# Altium footprint library RectangularConnectors.PcbLib: 154 footprints (part 5 of 10)
Each footprint in its own frame and in the unit in brackets; x right, y up, seen from the top. Pads: shape width x height; smd on the part's side, far side on the other; paste and mask are expansions set on the pad; w line width, h text height; cw(c..) or ccw(c..) is an arc to the next point about the centre after c.
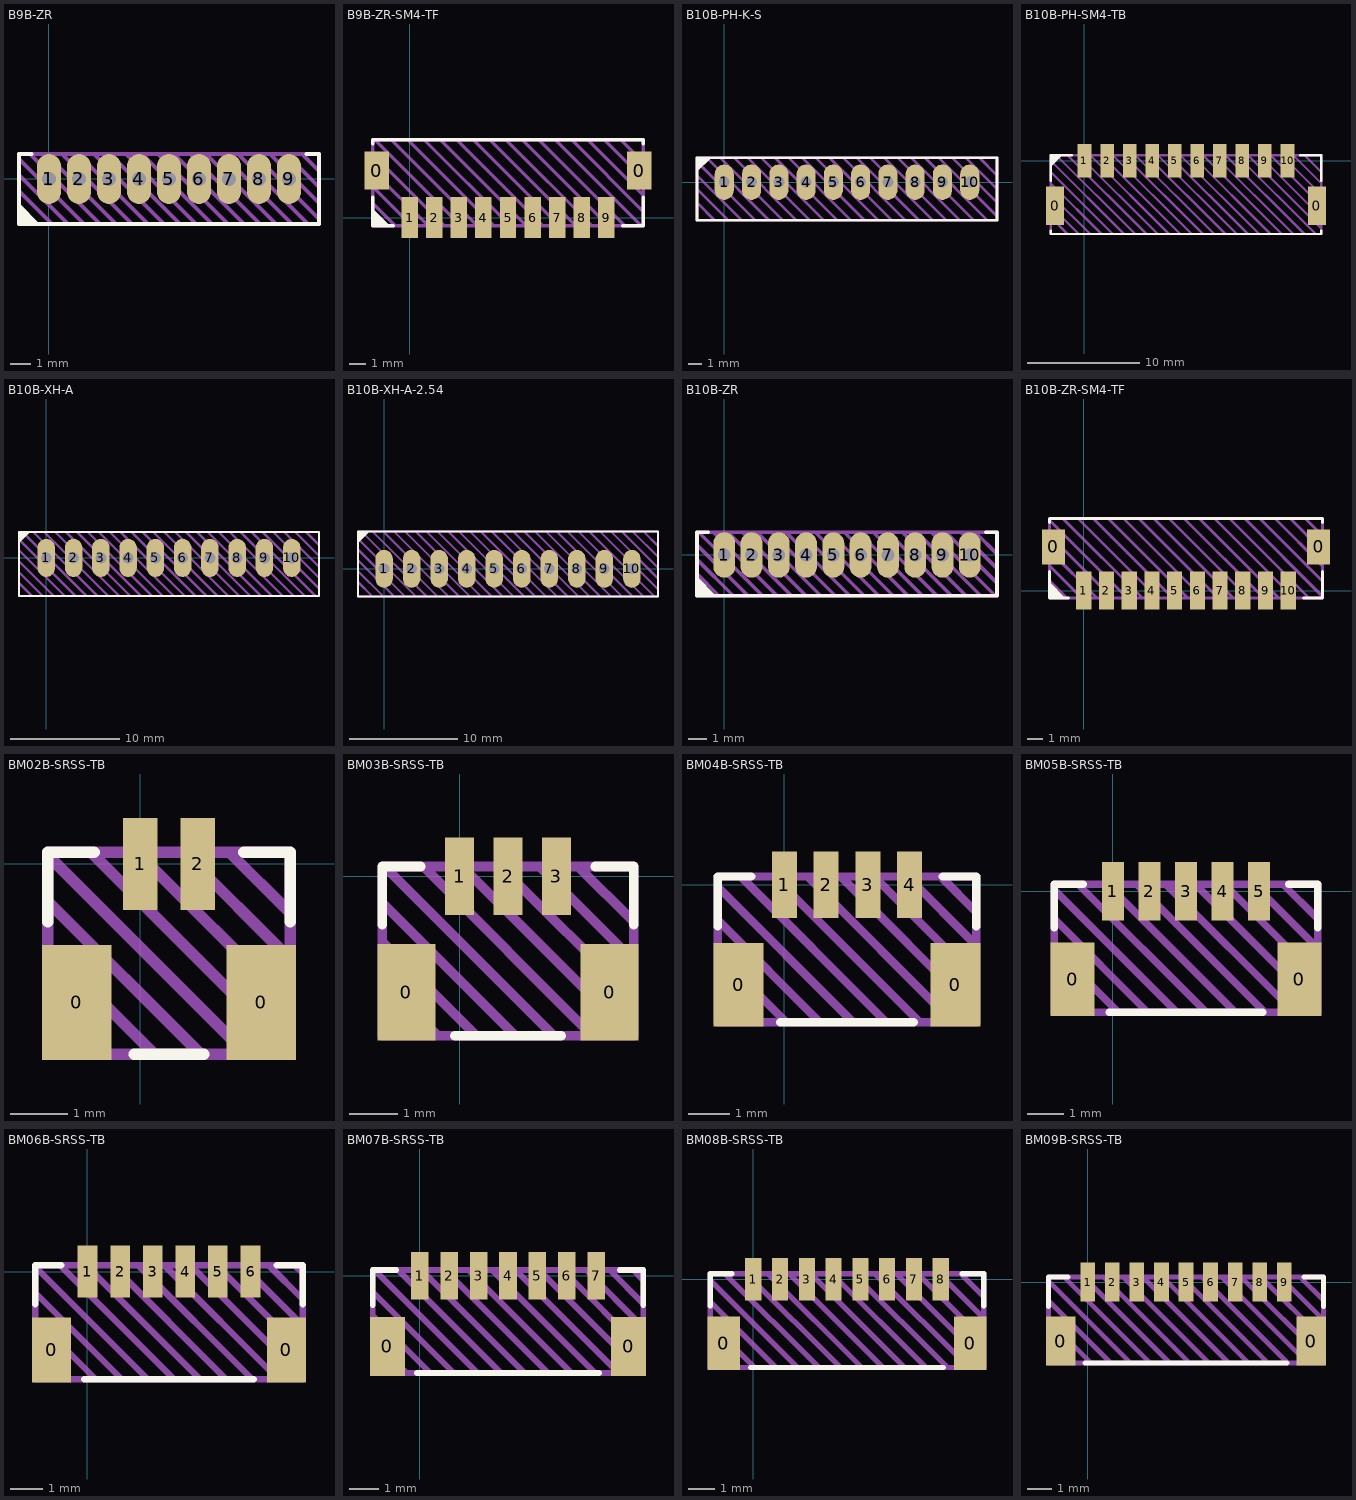
[diagram p4: the footprints below, top view; thin cyan lines are the x and y axes]

## B9B-ZR [mm] "ZH1.5 PTH Straight"
pads (9):
  oval 1.2x2.5 hole 0.7: 1(0,0) 2(1.5,0) 3(3,0) 4(4.5,0) 5(6,0) 6(7.5,0) 7(9,0) 8(10.5,0) 9(12,0)
Top Overlay:
  region: -0.46,-2.25 -1.5,-1.21 -1.5,-2.25
  lines w0.2: -0.875,1.25 -1.5,1.25 -1.5,-2.25 13.5,-2.25 13.5,1.25 12.875,1.25
Top Draw:
  lines w0.2: -1.5,-1.4 -0.65,-2.25 ; -1.5,-0.6 0.15,-2.25 ; -1.5,0.2 0.95,-2.25 ; -1.5,1 1.75,-2.25 ; -0.95,1.25 2.55,-2.25 ; -0.15,1.25 3.35,-2.25 ; 0.65,1.25 4.15,-2.25 ; 1.45,1.25 4.95,-2.25 ; 2.25,1.25 5.75,-2.25 ; 3.05,1.25 6.55,-2.25 ; 3.85,1.25 7.35,-2.25 ; 4.65,1.25 8.15,-2.25 ; 5.45,1.25 8.95,-2.25 ; 6.25,1.25 9.75,-2.25 ; 7.05,1.25 10.55,-2.25 ; 7.85,1.25 11.35,-2.25 ; 8.65,1.25 12.15,-2.25 ; 9.45,1.25 12.95,-2.25 ; 10.25,1.25 13.5,-2 ; 11.05,1.25 13.5,-1.2 ; 11.85,1.25 13.5,-0.4 ; 12.65,1.25 13.5,0.4 ; -1.5,-2.25 -1.5,1.25 13.5,1.25 13.5,-2.25 -1.5,-2.25
Top Info:
  text "'.Comment'" at 2.814,-3.437 h0.75
3D body "B9B-ZR.step": height 4.52, standoff -2.68, extent -1.5,-2.2 13.5,1.3

## B9B-ZR-SM4-TF [mm] "ZH1.5 SMT Straight"
pads (11):
  rect 1.5x2.3 smd: 0(-2,2.875) 0(14,2.875)
  rect 1x2.5 smd: 1(0,0) 2(1.5,0) 3(3,0) 4(4.5,0) 5(6,0) 6(7.5,0) 7(9,0) 8(10.5,0) 9(12,0)
Top Overlay:
  region: -1.21,-0.5 -2.25,0.54 -2.25,-0.5
  lines w0.2: -2.25,1.25 -2.25,-0.5 -1,-0.5 ; -2.25,4.5 -2.25,4.75 14.25,4.75 14.25,4.5 ; 13,-0.5 14.25,-0.5 14.25,1.25
Top Draw:
  lines w0.2: -2.25,0.875 -0.875,-0.5 ; -2.25,1.875 0.125,-0.5 ; -2.25,2.875 1.125,-0.5 ; -2.25,3.875 2.125,-0.5 ; -2.125,4.75 3.125,-0.5 ; -1.125,4.75 4.125,-0.5 ; -0.125,4.75 5.125,-0.5 ; 0.875,4.75 6.125,-0.5 ; 1.875,4.75 7.125,-0.5 ; 2.875,4.75 8.125,-0.5 ; 3.875,4.75 9.125,-0.5 ; 4.875,4.75 10.125,-0.5 ; 5.875,4.75 11.125,-0.5 ; 6.875,4.75 12.125,-0.5 ; 7.875,4.75 13.125,-0.5 ; 8.875,4.75 14.125,-0.5 ; 9.875,4.75 14.25,0.375 ; 10.875,4.75 14.25,1.375 ; 11.875,4.75 14.25,2.375 ; 12.875,4.75 14.25,3.375 ; -2.25,-0.5 -2.25,4.75 14.25,4.75 14.25,-0.5 -2.25,-0.5
Top Info:
  text "'.Comment'" at 2.814,-2.437 h0.75
3D body "B9B-ZR-SM4-TF.step": height 5.02, standoff 0.02, extent -2.25,-0.5 14.25,4.7

## B10B-PH-K-S [mm] "PH2.0 PTH Straight"
pads (10):
  oval 1.4x2.6 hole 0.8: 1(0,0) 2(2,0) 3(4,0) 4(6,0) 5(8,0) 6(10,0) 7(12,0) 8(14,0) 9(16,0) 10(18,0)
Top Overlay:
  region: -2,0.76 -0.96,1.8 -2,1.8
  lines w0.2: -2,-2.8 20,-2.8 20,1.8 -2,1.8 -2,-2.8
Top Draw:
  lines w0.2: -2,-1.5 -0.7,-2.8 ; -2,-0.5 0.3,-2.8 ; -2,0.5 1.3,-2.8 ; -2,1.5 2.3,-2.8 ; -1.3,1.8 3.3,-2.8 ; -0.3,1.8 4.3,-2.8 ; 0.7,1.8 5.3,-2.8 ; 1.7,1.8 6.3,-2.8 ; 2.7,1.8 7.3,-2.8 ; 3.7,1.8 8.3,-2.8 ; 4.7,1.8 9.3,-2.8 ; 5.7,1.8 10.3,-2.8 ; 6.7,1.8 11.3,-2.8 ; 7.7,1.8 12.3,-2.8 ; 8.7,1.8 13.3,-2.8 ; 9.7,1.8 14.3,-2.8 ; 10.7,1.8 15.3,-2.8 ; 11.7,1.8 16.3,-2.8 ; 12.7,1.8 17.3,-2.8 ; 13.7,1.8 18.3,-2.8 ; 14.7,1.8 19.3,-2.8 ; 15.7,1.8 20,-2.5 ; 16.7,1.8 20,-1.5 ; 17.7,1.8 20,-0.5 ; 18.7,1.8 20,0.5 ; -2,-2.8 20,-2.8 20,1.8 -2,1.8 -2,-2.8
Top Info:
  text "'.Comment'" at 4.751,-4.283 h1
3D body "B10B-PH-K-S.stp": height 6.02, standoff -3.38, extent -1.95,-2.8 19.95,1.8

## B10B-PH-SM4-TB [mm] "PH2.0 SMT Straight"
pads (12):
  rect 1.6x3.4 smd: 0(-2.6,-4) 0(20.6,-4)
  rect 1.2x3 smd: 1(0,0) 2(2,0) 3(4,0) 4(6,0) 5(8,0) 6(10,0) 7(12,0) 8(14,0) 9(16,0) 10(18,0)
Top Overlay:
  region: -3,-0.54 -1.96,0.5 -3,0.5
  lines w0.2: -3,-6.2 -3,-6.5 21,-6.5 21,-6.2 ; -3,-1.8 -3,0.5 -1.1,0.5 ; 19.1,0.5 21,0.5 21,-1.8
Top Draw:
  lines w0.2: -3,-5 -1.5,-6.5 ; -3,-4 -0.5,-6.5 ; -3,-3 0.5,-6.5 ; -3,-2 1.5,-6.5 ; -3,-1 2.5,-6.5 ; -3,0 3.5,-6.5 ; -2.5,0.5 4.5,-6.5 ; -1.5,0.5 5.5,-6.5 ; -0.5,0.5 6.5,-6.5 ; 0.5,0.5 7.5,-6.5 ; 1.5,0.5 8.5,-6.5 ; 2.5,0.5 9.5,-6.5 ; 3.5,0.5 10.5,-6.5 ; 4.5,0.5 11.5,-6.5 ; 5.5,0.5 12.5,-6.5 ; 6.5,0.5 13.5,-6.5 ; 7.5,0.5 14.5,-6.5 ; 8.5,0.5 15.5,-6.5 ; 9.5,0.5 16.5,-6.5 ; 10.5,0.5 17.5,-6.5 ; 11.5,0.5 18.5,-6.5 ; 12.5,0.5 19.5,-6.5 ; 13.5,0.5 20.5,-6.5 ; 14.5,0.5 21,-6 ; 15.5,0.5 21,-5 ; 16.5,0.5 21,-4 ; 17.5,0.5 21,-3 ; 18.5,0.5 21,-2 ; 19.5,0.5 21,-1 ; -3,-6.5 21,-6.5 21,0.5 -3,0.5 -3,-6.5
Top Info:
  text "'.Comment'" at 4.751,-7.983 h1
3D body "B10B-PH-SM4-TB.step": height 6.62, standoff 0.02, extent -2.975,-6.5 20.975,0.5

## B10B-XH-A [mm] "XH2.5 PTH Straight"
pads (10):
  oval 1.6x3.5 hole 1: 1(0,0) 2(2.5,0) 3(5,0) 4(7.5,0) 5(10,0) 6(12.5,0) 7(15,0) 8(17.5,0) 9(20,0) 10(22.5,0)
Top Overlay:
  region: -2.5,1.335 -1.46,2.375 -2.5,2.375
  lines w0.2: -2.5,-3.5 -2.5,2.375 25,2.375 25,-3.5 -2.5,-3.5
Top Draw:
  lines w0.2: -2.5,-2.313 -1.313,-3.5 ; -2.5,-1.313 -0.313,-3.5 ; -2.5,-0.313 0.687,-3.5 ; -2.5,0.687 1.687,-3.5 ; -2.5,1.687 2.687,-3.5 ; -2.188,2.375 3.687,-3.5 ; -1.188,2.375 4.687,-3.5 ; -0.188,2.375 5.687,-3.5 ; 0.812,2.375 6.687,-3.5 ; 1.812,2.375 7.687,-3.5 ; 2.812,2.375 8.687,-3.5 ; 3.812,2.375 9.687,-3.5 ; 4.812,2.375 10.687,-3.5 ; 5.813,2.375 11.688,-3.5 ; 6.812,2.375 12.687,-3.5 ; 7.813,2.375 13.688,-3.5 ; 8.812,2.375 14.687,-3.5 ; 9.813,2.375 15.688,-3.5 ; 10.813,2.375 16.688,-3.5 ; 11.813,2.375 17.688,-3.5 ; 12.813,2.375 18.688,-3.5 ; 13.813,2.375 19.688,-3.5 ; 14.813,2.375 20.688,-3.5 ; 15.813,2.375 21.688,-3.5 ; 16.813,2.375 22.688,-3.5 ; 17.813,2.375 23.688,-3.5 ; 18.813,2.375 24.688,-3.5 ; 19.813,2.375 25,-2.812 ; 20.813,2.375 25,-1.812 ; 21.813,2.375 25,-0.812 ; 22.813,2.375 25,0.188 ; 23.813,2.375 25,1.188 ; -2.5,-3.5 -2.5,2.375 25,2.375 25,-3.5 -2.5,-3.5
Top Info:
  text "'.Comment'" at 7.001,-4.958 h1
3D body "B10B-XH-A.step": height 7.02, standoff -3.48, extent -2.45,-3.4 24.95,2.35

## B10B-XH-A-2.54 [mm] "XH2.54 PTH Straight"
pads (10):
  oval 1.6x3.5 hole 1: 1(0,0) 2(2.54,0) 3(5.08,0) 4(7.62,0) 5(10.16,0) 6(12.7,0) 7(15.24,0) 8(17.78,0) 9(20.32,0) 10(22.86,0)
Top Overlay:
  region: -2.413,2.389 -1.373,3.429 -2.413,3.429
  lines w0.2: -2.413,-2.54 25.273,-2.54 25.273,3.429 -2.413,3.429 -2.413,-2.54
Top Draw:
  lines w0.2: -2.413,-1.213 -1.086,-2.54 ; -2.413,-0.213 -0.086,-2.54 ; -2.413,0.787 0.914,-2.54 ; -2.413,1.787 1.914,-2.54 ; -2.413,2.787 2.914,-2.54 ; -2.055,3.429 3.914,-2.54 ; -1.055,3.429 4.914,-2.54 ; -0.055,3.429 5.914,-2.54 ; 0.945,3.429 6.914,-2.54 ; 1.945,3.429 7.914,-2.54 ; 2.945,3.429 8.914,-2.54 ; 3.945,3.429 9.914,-2.54 ; 4.945,3.429 10.914,-2.54 ; 5.945,3.429 11.914,-2.54 ; 6.945,3.429 12.914,-2.54 ; 7.946,3.429 13.915,-2.54 ; 8.945,3.429 14.914,-2.54 ; 9.946,3.429 15.915,-2.54 ; 10.946,3.429 16.915,-2.54 ; 11.946,3.429 17.915,-2.54 ; 12.946,3.429 18.915,-2.54 ; 13.946,3.429 19.915,-2.54 ; 14.946,3.429 20.915,-2.54 ; 15.946,3.429 21.915,-2.54 ; 16.946,3.429 22.915,-2.54 ; 17.946,3.429 23.915,-2.54 ; 18.946,3.429 24.915,-2.54 ; 19.946,3.429 25.273,-1.898 ; 20.946,3.429 25.273,-0.898 ; 21.946,3.429 25.273,0.102 ; 22.946,3.429 25.273,1.102 ; 23.946,3.429 25.273,2.102 ; -2.413,-2.54 25.273,-2.54 25.273,3.429 -2.413,3.429 -2.413,-2.54
Top Info:
  text "'.Comment'" at 7.181,-4.012 h1
3D body "JST - XH - Thru (V) - 10Pin - 2.54mm.stp": height 7.21, standoff -3, extent -2.337,-2.489 25.197,3.353

## B10B-ZR [mm] "ZH1.5 PTH Straight"
pads (10):
  oval 1.2x2.5 hole 0.7: 1(0,0) 2(1.5,0) 3(3,0) 4(4.5,0) 5(6,0) 6(7.5,0) 7(9,0) 8(10.5,0) 9(12,0) 10(13.5,0)
Top Overlay:
  region: -0.46,-2.25 -1.5,-1.21 -1.5,-2.25
  lines w0.2: -0.875,1.25 -1.5,1.25 -1.5,-2.25 15,-2.25 15,1.25 14.375,1.25
Top Draw:
  lines w0.2: -1.5,-1.05 -0.3,-2.25 ; -1.5,-0.25 0.5,-2.25 ; -1.5,0.55 1.3,-2.25 ; -1.4,1.25 2.1,-2.25 ; -0.6,1.25 2.9,-2.25 ; 0.2,1.25 3.7,-2.25 ; 1,1.25 4.5,-2.25 ; 1.8,1.25 5.3,-2.25 ; 2.6,1.25 6.1,-2.25 ; 3.4,1.25 6.9,-2.25 ; 4.2,1.25 7.7,-2.25 ; 5,1.25 8.5,-2.25 ; 5.8,1.25 9.3,-2.25 ; 6.6,1.25 10.1,-2.25 ; 7.4,1.25 10.9,-2.25 ; 8.2,1.25 11.7,-2.25 ; 9,1.25 12.5,-2.25 ; 9.8,1.25 13.3,-2.25 ; 10.6,1.25 14.1,-2.25 ; 11.4,1.25 14.9,-2.25 ; 12.2,1.25 15,-1.55 ; 13,1.25 15,-0.75 ; 13.8,1.25 15,0.05 ; -1.5,-2.25 -1.5,1.25 15,1.25 15,-2.25 -1.5,-2.25
Top Info:
  text "'.Comment'" at 3.564,-3.437 h0.75
3D body "B10B-ZR.step": height 4.52, standoff -2.68, extent -1.5,-2.2 15,1.3

## B10B-ZR-SM4-TF [mm] "ZH1.5 SMT Straight"
pads (12):
  rect 1.5x2.3 smd: 0(-2,2.875) 0(15.5,2.875)
  rect 1x2.5 smd: 1(0,0) 2(1.5,0) 3(3,0) 4(4.5,0) 5(6,0) 6(7.5,0) 7(9,0) 8(10.5,0) 9(12,0) 10(13.501,0.001)
Top Overlay:
  region: -1.21,-0.5 -2.25,0.54 -2.25,-0.5
  lines w0.2: -2.25,1.25 -2.25,-0.5 -1,-0.5 ; -2.25,4.5 -2.25,4.75 15.75,4.75 15.75,4.5 ; 14.5,-0.5 15.75,-0.5 15.75,1.25
Top Draw:
  lines w0.2: -2.25,0.625 -1.125,-0.5 ; -2.25,1.625 -0.125,-0.5 ; -2.25,2.625 0.875,-0.5 ; -2.25,3.625 1.875,-0.5 ; -2.25,4.625 2.875,-0.5 ; -1.375,4.75 3.875,-0.5 ; -0.375,4.75 4.875,-0.5 ; 0.625,4.75 5.875,-0.5 ; 1.625,4.75 6.875,-0.5 ; 2.625,4.75 7.875,-0.5 ; 3.625,4.75 8.875,-0.5 ; 4.625,4.75 9.875,-0.5 ; 5.625,4.75 10.875,-0.5 ; 6.625,4.75 11.875,-0.5 ; 7.625,4.75 12.875,-0.5 ; 8.625,4.75 13.875,-0.5 ; 9.625,4.75 14.875,-0.5 ; 10.625,4.75 15.75,-0.375 ; 11.625,4.75 15.75,0.625 ; 12.625,4.75 15.75,1.625 ; 13.625,4.75 15.75,2.625 ; 14.625,4.75 15.75,3.625 ; -2.25,-0.5 -2.25,4.75 15.75,4.75 15.75,-0.5 -2.25,-0.5
Top Info:
  text "'.Comment'" at 3.564,-2.437 h0.75
3D body "B10B-ZR-SM4-TF.step": height 5.02, standoff 0.02, extent -2.25,-0.5 15.75,4.7

## BM02B-SRSS-TB [mm] "SH1.0"
pads (4):
  rect 1.2x2 smd: 0(-1.1,-2.4) 0(2.1,-2.4)
  rect 0.6x1.6 smd: 1(0,0) 2(1,0)
Top Overlay:
  lines w0.2: -1.6,-1 -1.6,0.2 -0.8,0.2 ; -0.1,-3.3 1.1,-3.3 ; 1.8,0.2 2.6,0.2 2.6,-1
Top Draw:
  lines w0.2: -1.6,-2.25 -0.55,-3.3 ; -1.6,-1.45 0.25,-3.3 ; -1.6,-0.65 1.05,-3.3 ; -1.6,0.15 1.85,-3.3 ; -0.85,0.2 2.6,-3.25 ; -0.05,0.2 2.6,-2.45 ; 0.75,0.2 2.6,-1.65 ; 1.55,0.2 2.6,-0.85 ; -1.6,-3.3 -1.6,0.2 2.6,0.2 2.6,-3.3 -1.6,-3.3
Top Info:
  text "'.Comment'" at -2.686,-4.537 h0.75
3D body "1734595-2.step": height 4.3, standoff 0, extent -1.65,-3.35 2.65,0.25

## BM03B-SRSS-TB [mm] "SH1.0"
pads (5):
  rect 1.2x2 smd: 0(-1.1,-2.4) 0(3.1,-2.4)
  rect 0.6x1.6 smd: 1(0,0) 2(1,0) 3(2,0)
Top Overlay:
  lines w0.2: -1.6,-1 -1.6,0.2 -0.8,0.2 ; -0.1,-3.3 2.1,-3.3 ; 2.8,0.2 3.6,0.2 3.6,-1
Top Draw:
  lines w0.2: -1.6,-2.15 -0.45,-3.3 ; -1.6,-1.35 0.35,-3.3 ; -1.6,-0.55 1.15,-3.3 ; -1.55,0.2 1.95,-3.3 ; -0.75,0.2 2.75,-3.3 ; 0.05,0.2 3.55,-3.3 ; 0.85,0.2 3.6,-2.55 ; 1.65,0.2 3.6,-1.75 ; 2.45,0.2 3.6,-0.95 ; -1.6,-3.3 3.6,-3.3 3.6,0.2 -1.6,0.2 -1.6,-3.3
Top Info:
  text "'.Comment'" at -2.186,-4.537 h0.75
3D body "1734595-3.step": height 4.3, standoff 0, extent -1.65,-3.35 3.65,0.25

## BM04B-SRSS-TB [mm] "SH1.0"
pads (6):
  rect 1.2x2 smd: 0(-1.1,-2.4) 0(4.1,-2.4)
  rect 0.6x1.6 smd: 1(0,0) 2(1,0) 3(2,0) 4(3,0)
Top Overlay:
  lines w0.2: -1.6,-1 -1.6,0.2 -0.8,0.2 ; -0.1,-3.3 3.1,-3.3 ; 3.8,0.2 4.6,0.2 4.6,-1
Top Draw:
  lines w0.2: -1.6,-2.45 -0.75,-3.3 ; -1.6,-1.65 0.05,-3.3 ; -1.6,-0.85 0.85,-3.3 ; -1.6,-0.05 1.65,-3.3 ; -1.05,0.2 2.45,-3.3 ; -0.25,0.2 3.25,-3.3 ; 0.55,0.2 4.05,-3.3 ; 1.35,0.2 4.6,-3.05 ; 2.15,0.2 4.6,-2.25 ; 2.95,0.2 4.6,-1.45 ; 3.75,0.2 4.6,-0.65 ; -1.6,-3.3 4.6,-3.3 4.6,0.2 -1.6,0.2 -1.6,-3.3
Top Info:
  text "'.Comment'" at -1.686,-4.537 h0.75
3D body "1734595-4.step": height 4.3, standoff 0, extent -1.65,-3.35 4.65,0.25

## BM05B-SRSS-TB [mm] "SH1.0"
pads (7):
  rect 1.2x2 smd: 0(-1.1,-2.4) 0(5.1,-2.4)
  rect 0.6x1.6 smd: 1(0,0) 2(1,0) 3(2,0) 4(3,0) 5(4,0)
Top Overlay:
  lines w0.2: -1.6,-1 -1.6,0.2 -0.8,0.2 ; -0.1,-3.3 4.1,-3.3 ; 4.8,0.2 5.6,0.2 5.6,-1
Top Draw:
  lines w0.2: -1.6,-3.25 -1.55,-3.3 ; -1.6,-2.35 -0.65,-3.3 ; -1.6,-1.55 0.15,-3.3 ; -1.6,-0.75 0.95,-3.3 ; -1.6,0.05 1.75,-3.3 ; -0.95,0.2 2.55,-3.3 ; -0.15,0.2 3.35,-3.3 ; 0.65,0.2 4.15,-3.3 ; 1.45,0.2 4.95,-3.3 ; 2.25,0.2 5.6,-3.15 ; 3.05,0.2 5.6,-2.35 ; 3.85,0.2 5.6,-1.55 ; 4.65,0.2 5.6,-0.75 ; -1.6,-3.3 5.6,-3.3 5.6,0.2 -1.6,0.2 -1.6,-3.3
Top Info:
  text "'.Comment'" at -1.186,-4.537 h0.75
3D body "1734595-5.step": height 4.3, standoff 0, extent -1.65,-3.35 5.65,0.25

## BM06B-SRSS-TB [mm] "SH1.0"
pads (8):
  rect 1.2x2 smd: 0(-1.1,-2.4) 0(6.1,-2.4)
  rect 0.6x1.6 smd: 1(0,0) 2(1,0) 3(2,0) 4(3,0) 5(4,0) 6(5,0)
Top Overlay:
  lines w0.2: -1.6,-1 -1.6,0.2 -0.8,0.2 ; -0.1,-3.3 5.1,-3.3 ; 5.8,0.2 6.6,0.2 6.6,-1
Top Draw:
  lines w0.2: -1.6,-3.25 -1.55,-3.3 ; -1.6,-3.05 -1.35,-3.3 ; -1.6,-2.25 -0.55,-3.3 ; -1.6,-1.45 0.25,-3.3 ; -1.6,-0.65 1.05,-3.3 ; -1.6,0.15 1.85,-3.3 ; -0.85,0.2 2.65,-3.3 ; -0.05,0.2 3.45,-3.3 ; 0.75,0.2 4.25,-3.3 ; 1.55,0.2 5.05,-3.3 ; 2.35,0.2 5.85,-3.3 ; 3.15,0.2 6.6,-3.25 ; 3.95,0.2 6.6,-2.45 ; 4.75,0.2 6.6,-1.65 ; 5.55,0.2 6.6,-0.85 ; 6.35,0.2 6.6,-0.05 ; -1.6,-3.3 -1.6,0.2 6.6,0.2 6.6,-3.3 -1.6,-3.3
Top Info:
  text "'.Comment'" at -0.686,-4.537 h0.75
3D body "1734595-6.step": height 4.3, standoff 0, extent -1.65,-3.35 6.65,0.25

## BM07B-SRSS-TB [mm] "SH1.0"
pads (9):
  rect 1.2x2 smd: 0(-1.1,-2.4) 0(7.1,-2.4)
  rect 0.6x1.6 smd: 1(0,0) 2(1,0) 3(2,0) 4(3,0) 5(4,0) 6(5,0) 7(6,0)
Top Overlay:
  lines w0.2: -1.6,-1 -1.6,0.2 -0.8,0.2 ; -0.1,-3.3 6.1,-3.3 ; 6.8,0.2 7.6,0.2 7.6,-1
Top Draw:
  lines w0.2: -1.6,-3.25 -1.55,-3.3 ; -1.6,-2.95 -1.25,-3.3 ; -1.6,-2.15 -0.45,-3.3 ; -1.6,-1.35 0.35,-3.3 ; -1.6,-0.55 1.15,-3.3 ; -1.55,0.2 1.95,-3.3 ; -0.75,0.2 2.75,-3.3 ; 0.05,0.2 3.55,-3.3 ; 0.85,0.2 4.35,-3.3 ; 1.65,0.2 5.15,-3.3 ; 2.45,0.2 5.95,-3.3 ; 3.25,0.2 6.75,-3.3 ; 4.05,0.2 7.55,-3.3 ; 4.85,0.2 7.6,-2.55 ; 5.65,0.2 7.6,-1.75 ; 6.45,0.2 7.6,-0.95 ; 7.25,0.2 7.6,-0.15 ; -1.6,-3.3 7.6,-3.3 7.6,0.2 -1.6,0.2 -1.6,-3.3
Top Info:
  text "'.Comment'" at -0.186,-4.537 h0.75
3D body "1734595-7.step": height 4.3, standoff 0, extent -1.65,-3.35 7.65,0.25

## BM08B-SRSS-TB [mm] "SH1.0"
pads (10):
  rect 1.2x2 smd: 0(-1.1,-2.4) 0(8.1,-2.4)
  rect 0.6x1.6 smd: 1(0,0) 2(1,0) 3(2,0) 4(3,0) 5(4,0) 6(5,0) 7(6,0) 8(7,0)
Top Overlay:
  lines w0.2: -1.6,-1 -1.6,0.2 -0.8,0.2 ; -0.1,-3.3 7.1,-3.3 ; 7.8,0.2 8.6,0.2 8.6,-1
Top Draw:
  lines w0.2: -1.6,-2.45 -0.75,-3.3 ; -1.6,-1.65 0.05,-3.3 ; -1.6,-0.85 0.85,-3.3 ; -1.6,-0.05 1.65,-3.3 ; -1.05,0.2 2.45,-3.3 ; -0.25,0.2 3.25,-3.3 ; 0.55,0.2 4.05,-3.3 ; 1.35,0.2 4.85,-3.3 ; 2.15,0.2 5.65,-3.3 ; 2.95,0.2 6.45,-3.3 ; 3.75,0.2 7.25,-3.3 ; 4.55,0.2 8.05,-3.3 ; 5.35,0.2 8.6,-3.05 ; 6.15,0.2 8.6,-2.25 ; 6.95,0.2 8.6,-1.45 ; 7.75,0.2 8.6,-0.65 ; -1.6,-3.3 8.6,-3.3 8.6,0.2 -1.6,0.2 -1.6,-3.3
Top Info:
  text "'.Comment'" at 0.314,-4.537 h0.75
3D body "1734595-8.step": height 4.3, standoff 0, extent -1.65,-3.35 8.65,0.25

## BM09B-SRSS-TB [mm] "SH1.0"
pads (11):
  rect 1.2x2 smd: 0(-1.1,-2.4) 0(9.1,-2.4)
  rect 0.6x1.6 smd: 1(0,0) 2(1,0) 3(2,0) 4(3,0) 5(4,0) 6(5,0) 7(6,0) 8(7,0) 9(8,0)
Top Overlay:
  lines w0.2: -1.6,-1 -1.6,0.2 -0.8,0.2 ; -0.1,-3.3 8.1,-3.3 ; 8.8,0.2 9.6,0.2 9.6,-1
Top Draw:
  lines w0.2: -1.6,-2.35 -0.65,-3.3 ; -1.6,-1.55 0.15,-3.3 ; -1.6,-0.75 0.95,-3.3 ; -1.6,0.05 1.75,-3.3 ; -0.95,0.2 2.55,-3.3 ; -0.15,0.2 3.35,-3.3 ; 0.65,0.2 4.15,-3.3 ; 1.45,0.2 4.95,-3.3 ; 2.25,0.2 5.75,-3.3 ; 3.05,0.2 6.55,-3.3 ; 3.85,0.2 7.35,-3.3 ; 4.65,0.2 8.15,-3.3 ; 5.45,0.2 8.95,-3.3 ; 6.25,0.2 9.6,-3.15 ; 7.05,0.2 9.6,-2.35 ; 7.85,0.2 9.6,-1.55 ; 8.65,0.2 9.6,-0.75 ; -1.6,-3.3 -1.6,0.2 9.6,0.2 9.6,-3.3 -1.6,-3.3
Top Info:
  text "'.Comment'" at 0.814,-4.537 h0.75
3D body "1734595-9.step": height 4.3, standoff 0, extent -1.65,-3.35 9.65,0.25